# Altium schematic symbol library Q_NFET_3pin_a.Schlib: 1 symbol
Pins are listed as number, name and electrical type; pins without a type are passive.

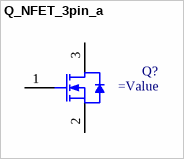
[diagram p0: symbol Q_NFET_3pin_a]

## Q_NFET_3pin_a
designator Q?
NFET
pins: 1 G, 2 S, 3 D